# Altium footprint library res.PcbLib: 4 footprints
Each footprint in its own frame and in the unit in brackets; x right, y up, seen from the top. Pads: shape width x height; smd on the part's side, far side on the other; paste and mask are expansions set on the pad; w line width, h text height; cw(c..) or ccw(c..) is an arc to the next point about the centre after c.
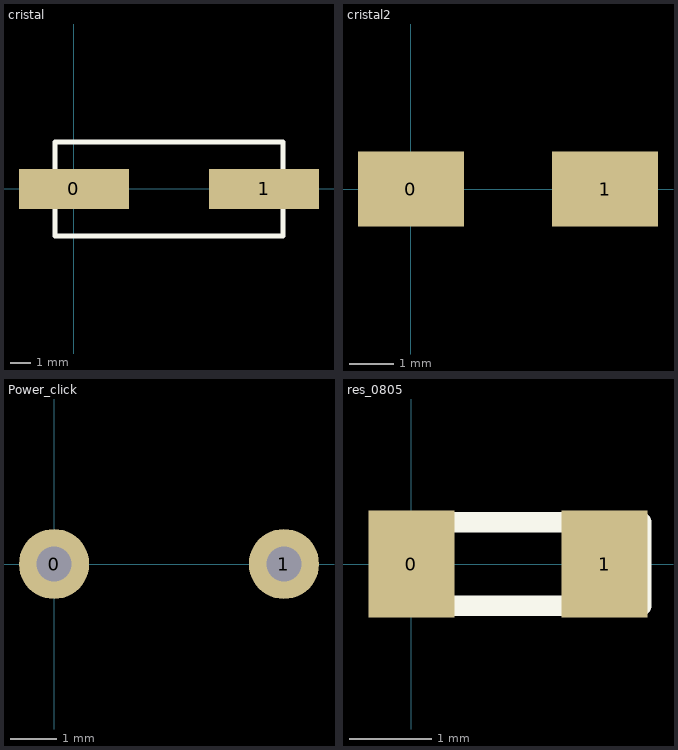
[diagram p0: the footprints below, top view; thin cyan lines are the x and y axes]

## cristal [mm]
pads (2):
  rect 5.5x2 smd: 0(0,0) 1(9.5,0)
Top Overlay:
  lines w0.254: 10.45,-2.35 -0.95,-2.35 -0.95,2.35 10.45,2.35 10.45,-2.314

## cristal2 [mm]
pads (2):
  rect 2.4x1.7 smd: 0(0,0) 1(4.4,0)

## Power_click [mil]
pads (2):
  round 60 hole 30: 0(0,0) 1(196.85,0)

## res_0805 [mm]
pads (2):
  rect 1.05x1.3 smd: 0(0,0) 1(2.35,0)
Top Overlay:
  lines w0.254: -0.381,-0.508 -0.381,0.508 2.794,0.508 2.794,-0.508 -0.381,-0.508